# Altium schematic symbol library 703W-00_53.SchLib: 1 symbol
Pins are listed as number, name and electrical type; pins without a type are passive.

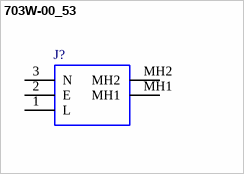
[diagram p0: symbol 703W-00_53]

## 703W-00_53
designator J?
AC Power Entry Modules PCB Mount 7mm; Manufacturer_Name: Qualtek; Manufacturer_Part_Number: 703W-00/53; Geometry.Height: 28.7mm; Mouser Part Number: 562-703W-00/53; Mouser Price/Stock: https://www.mouser.co.uk/ProductDetail/Qualtek/703W-00-53?qs=%252BCmxX1pwNuHERMfCpPr41g%3D%3D; Datasheet Link: http://www.qualtekusa.com/Catalog/AC_Receptacles/pdfs/703w0053.pdf
footprint 703W0053
pins: 1 L, 2 E, 3 N, MH1, MH2